# Altium schematic symbol library RC0402FR-07200KL.SchLib: 1 symbol
Pins are listed as number, name and electrical type; pins without a type are passive.

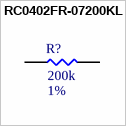
[diagram p0: symbol RC0402FR-07200KL]

## RC0402FR-07200KL
designator R?  Resistance: 200k  Tolerance: 1%  (hidden comment: RC0402FR-07200KL)
RES SMD 200K OHM 1% 1/16W 0402; MFR: Yageo; PN: RC0402FR-07200KL; Footprint: RES0402; Package: 0402; ComponentLink1Description: Datasheet; ComponentLink1URL: https://www.yageo.com/upload/media/product/productsearch/datasheet/rchip/PYu-RC_Group_51_RoHS_L_11.pdf; Power Rating: 1/16W; Supplier 1: Digi-Key; Supplier Part Number 1: 311-200KLRCT-ND
footprint RES0402 (Generic 0402 PCB Footprint)
pins: 1, 2